# EAGLE library part MC100EL1648DG (library MC100EL1648DG)
Source: Datasheet <http://www.onsemi.com/pub/Collateral/MC100EL1648-D.PDF>
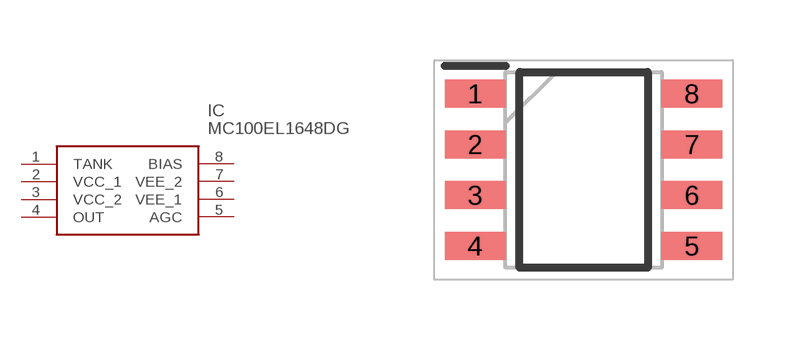
[diagram p0: symbol with the pads of SOIC127P600X175-8N; footprint SOIC127P600X175-8N]

Designator prefix IC

## MC100EL1648DG (Arrow_Part_Number: MC100EL1648DG; Arrow_Price-Stock: https://www.arrow.com/en/products/mc100el1648dg/on-semiconductor; Height: 1.75mm; Manufacturer_Name: onsemi; Manufacturer_Part_Number: MC100EL1648DG; Mouser_Part_Number: 863-MC100EL1648DG; Mouser_Price-Stock: https://www.mouser.co.uk/ProductDetail/onsemi/MC100EL1648DG?qs=3JMERSakebqE0DRlvq1XhA%3D%3D)  [SOIC127P600X175-8N]
1  TANK
2  VCC_1  pwr
3  VCC_2  pwr
4  OUT  out
5  AGC
6  VEE_1
7  VEE_2
8  BIAS

## Footprint SOIC127P600X175-8N (pad centres in mm)
SOIC-8 NB CAST 751-07
smd 1.525 x 0.7: 1 -2.712,1.905; 2 -2.712,0.635; 3 -2.712,-0.635; 4 -2.712,-1.905; 5 2.712,-1.905; 6 2.712,-0.635; 7 2.712,0.635; 8 2.712,1.905